# EAGLE library part OKL-T (library DCDC-MURATA)
http://akizukidenshi.com/download/ds/murata/OKL_T6_W12.pdf
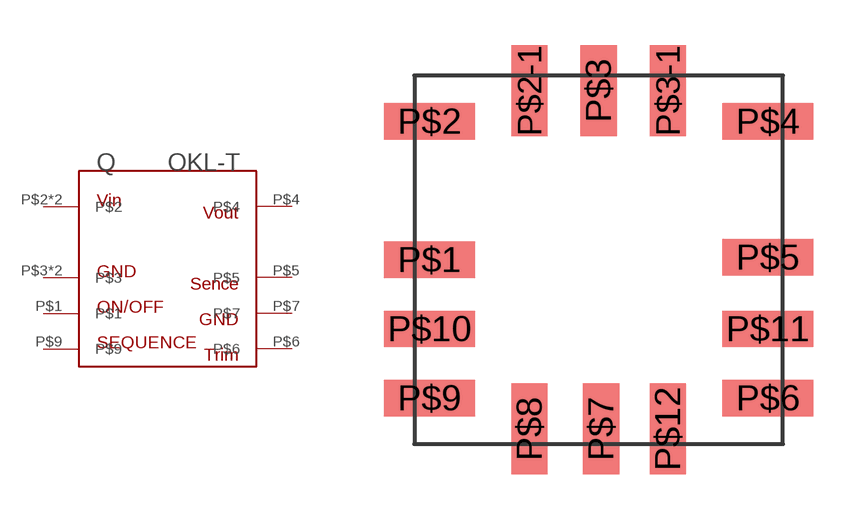
[diagram p0: symbol with the pads of OKL-T; footprint OKL-T]

Designator prefix Q

## OKL-T  [OKL-T]
P$1  P$1
P$2  P$2
P$2-1  P$2
P$3  P$3
P$3-1  P$3
P$4  P$4
P$5  P$5
P$6  P$6
P$7  P$7
P$9  P$9

## Footprint OKL-T (pad centres in mm)
smd 3 x 1.2: P$1 -5.6,0; P$2 -5.6,4.58; P$4 5.6,4.58; P$5 5.6,0.08; P$6 5.6,-4.58; P$9 -5.6,-4.58; P$10 -5.6,-2.29; P$11 5.6,-2.29
smd 1.2 x 3: P$2-1 -2.29,5.6; P$3 0,5.6; P$3-1 2.29,5.6; P$7 0.08,-5.6; P$8 -2.29,-5.6; P$12 2.29,-5.6